# Altium schematic symbol library 1206B475K500NT.SchLib: 1 symbol
Pins are listed as number, name and electrical type; pins without a type are passive.

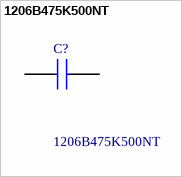
[diagram p0: symbol 1206B475K500NT]

## 1206B475K500NT
designator C?
4.7uF +/-10% 50V X7R 1206 Multilayer Ceramic Capacitors MLCC - SMD/SMT RoHS; Manufacturer_Name: FH(Guangdong Fenghua Advanced Tech); Geometry.Height: 1.9mm; Manufacturer_Part_Number: 1206B475K500NT; Mouser Part Number: *; Mouser Price/Stock: *; Arrow Part Number: *; Arrow Price/Stock: *; Datasheet Link: https://datasheet.lcsc.com/szlcsc/Guangdong-Fenghua-Advanced-Tech-1206B475K500NT_C29823.pdf
footprint CAPC3216X190N
pins: 1, 2